# Altium schematic symbol library InvestiGator.SchLib: 5 symbols
Pins are listed as number, name and electrical type; pins without a type are passive.

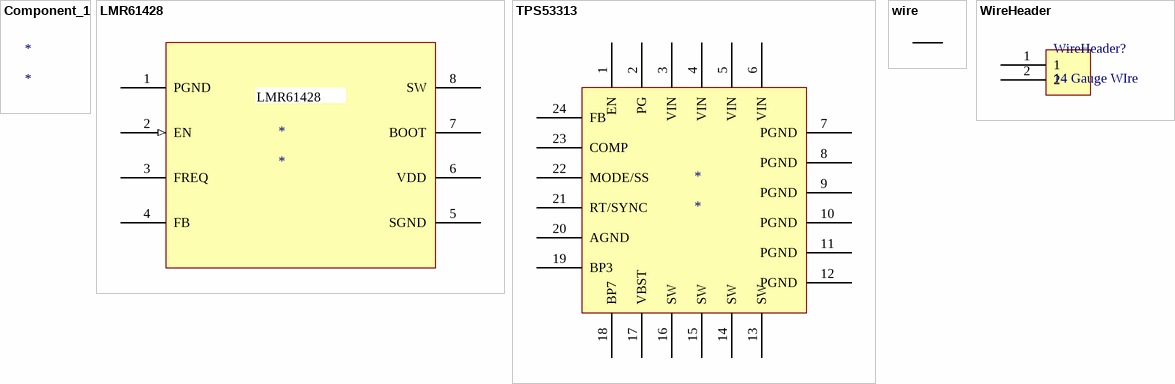
[diagram p0: symbols Component_1 to WireHeader]

## Component_1
designator *

## LMR61428
designator *
footprint D8
pins: 1 PGND (power), 2 EN (in), 3 FREQ, 4 FB, 5 SGND (power), 6 VDD (power), 7 BOOT, 8 SW

## TPS53313
designator *
footprint RGE24_2P45X2P45
pins: 1 EN, 2 PG, 3 VIN, 4 VIN, 5 VIN, 6 VIN, 7 PGND, 8 PGND, 9 PGND, 10 PGND, 11 PGND, 12 PGND, 13 SW, 14 SW, 15 SW, 16 SW, 17 VBST (power), 18 BP7 (power), 19 BP3 (power), 20 AGND (power), 21 RT/SYNC, 22 MODE/SS, 23 COMP, 24 FB

## wire
designator W?  (net tie, no BOM)
footprint wire
pins: 1 "No internal connection", 2 "No internal connection"

## WireHeader
designator WireHeader?, comment 14 Gauge WIre
footprint WireHeader
pins: 1, 2